# Altium footprint library DO-213AB.PcbLib: 1 footprints
Each footprint in its own frame and in the unit in brackets; x right, y up, seen from the top. Pads: shape width x height; smd on the part's side, far side on the other; paste and mask are expansions set on the pad; w line width, h text height; cw(c..) or ccw(c..) is an arc to the next point about the centre after c.
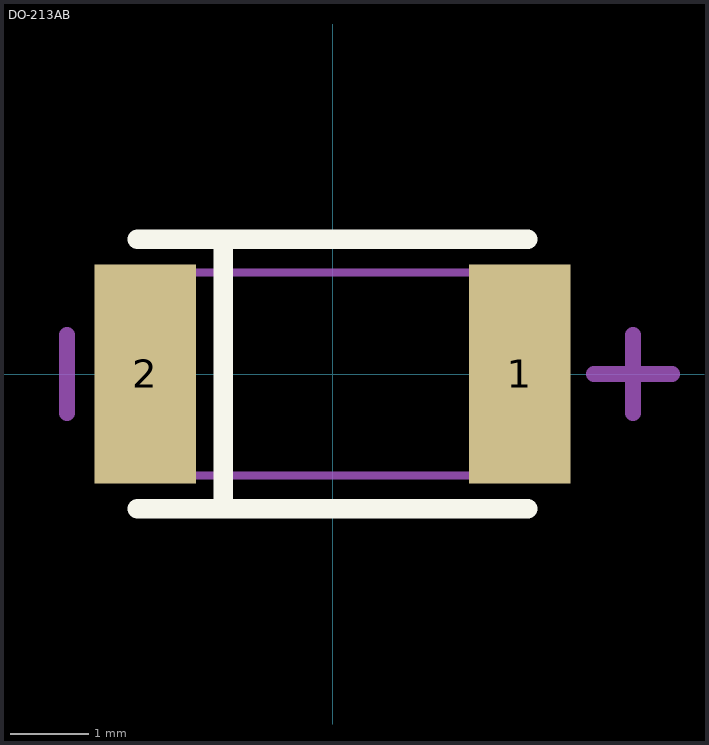
[diagram p0: the footprint, top view; thin cyan lines are the x and y axes]

## DO-213AB [mm]
pads (2):
  rect 1.3x2.8 smd: 1(2.4,0) 2(-2.4,0)
Top Overlay:
  lines w0.254: -2.5,-1.725 2.5,-1.725 ; -2.5,1.725 2.5,1.725 ; -1.4,-1.725 -1.4,1.7
Mechanical 13:
  lines w0.1: -2.5,-1.3 2.5,-1.3 2.5,1.3 -2.5,1.3 -2.5,-1.3
Mechanical 15:
  lines w0.203: -3.4,-0.5 -3.4,0.5 ; 3.35,0 4.35,0 ; 3.85,-0.5 3.85,0.5